# Altium footprint library KEYSTONE_TP5000.PcbLib: 1 footprints
Each footprint in its own frame and in the unit in brackets; x right, y up, seen from the top. Pads: shape width x height; smd on the part's side, far side on the other; paste and mask are expansions set on the pad; w line width, h text height; cw(c..) or ccw(c..) is an arc to the next point about the centre after c.
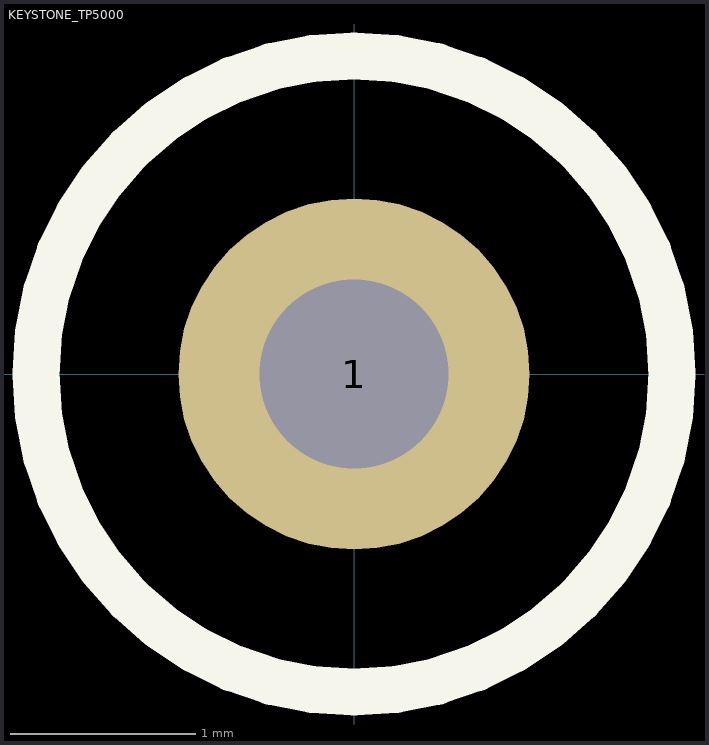
[diagram p0: the footprint, top view; thin cyan lines are the x and y axes]

## KEYSTONE_TP5000 [mm] "Oscilloscope Test Point Keystone 5000 series Red"
height 4.57
pads (1):
  round 1.9 hole 1.02: 1(0,0)
Top Overlay:
  circle w0.254: c0,0 r1.72
3D body: height 4.57, standoff 0, extent -1.739,-1.753 1.701,1.687